# Altium footprint library Pcblibv2.PcbLib: 94 footprints (part 6 of 6)
Each footprint in its own frame and in the unit in brackets; x right, y up, seen from the top. Pads: shape width x height; smd on the part's side, far side on the other; paste and mask are expansions set on the pad; w line width, h text height; cw(c..) or ccw(c..) is an arc to the next point about the centre after c.
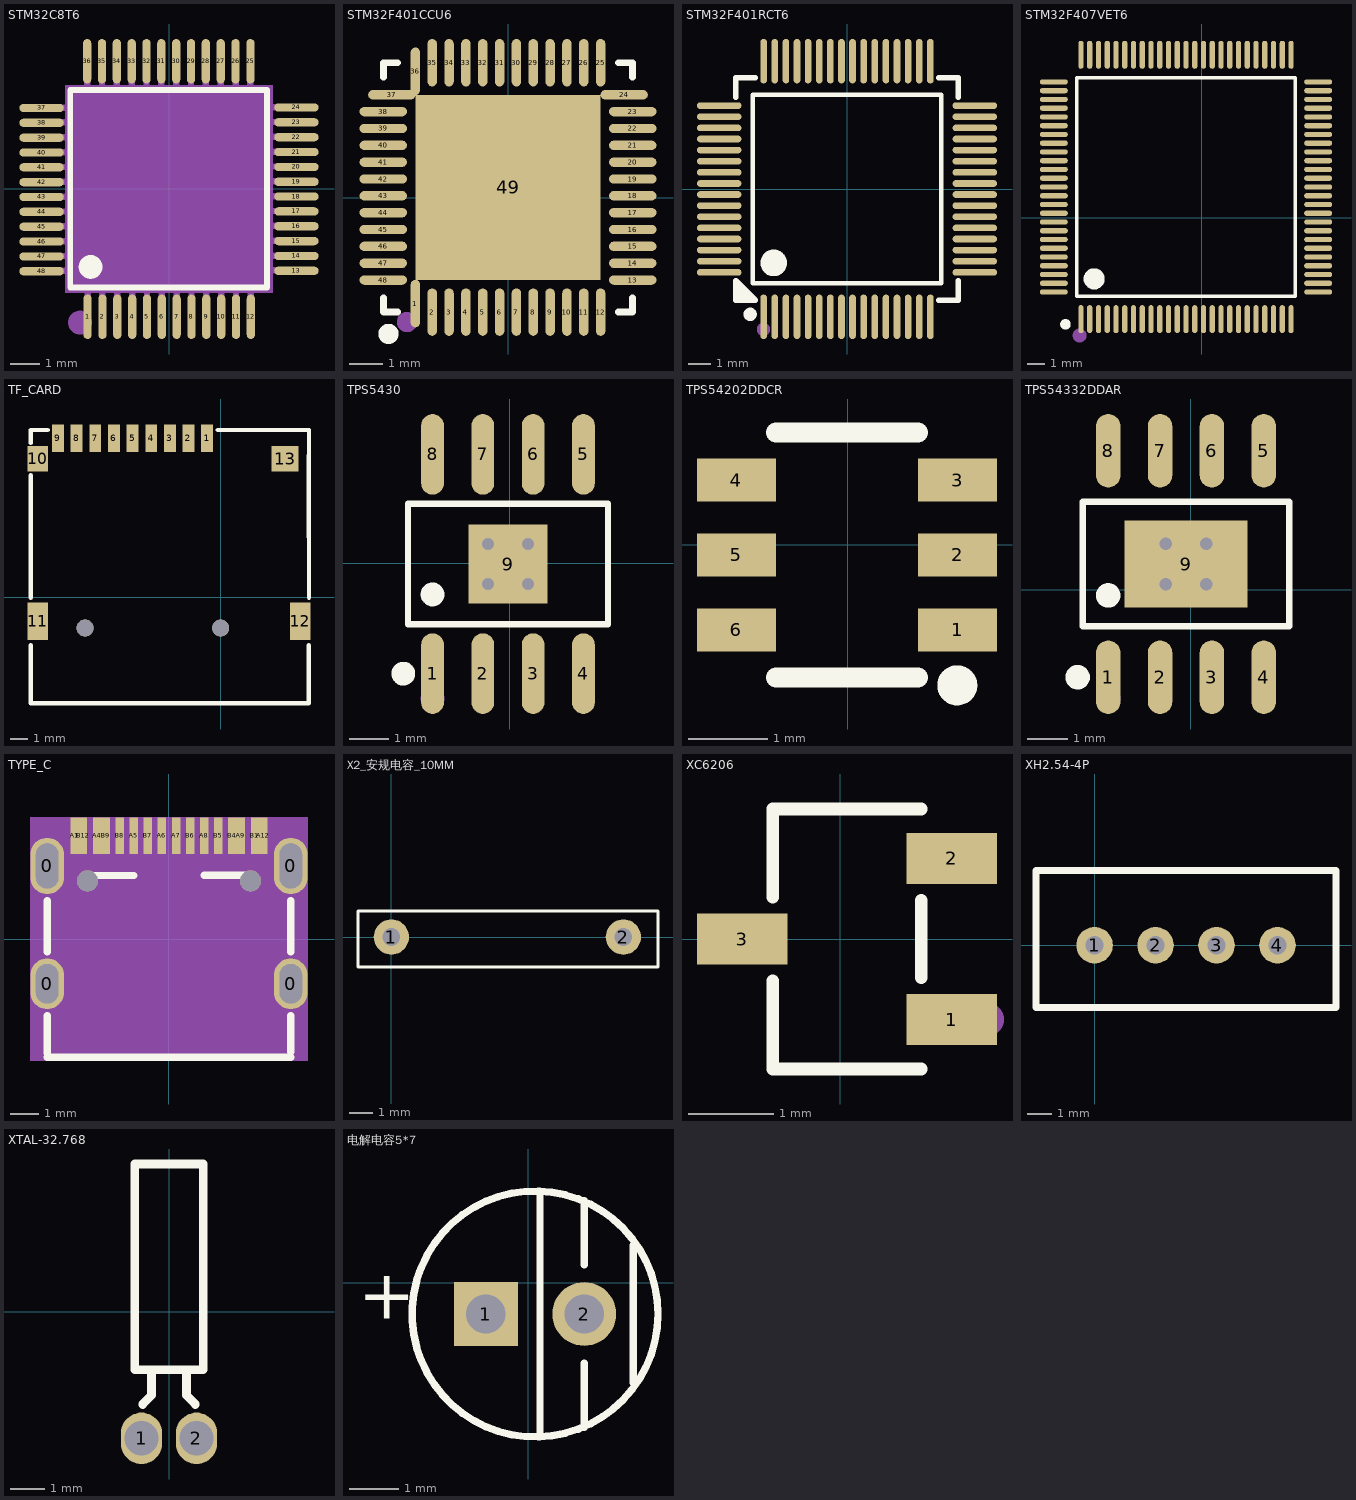
[diagram p5: the footprints below, top view; thin cyan lines are the x and y axes]

## STM32C8T6 [mil]
pads (48):
  oval 11.02x58.89 smd: 1(-108,-169.5) 2(-88.3,-169.5) 3(-68.6,-169.5) 4(-48.9,-169.5) 5(-29.2,-169.5) 6(-9.5,-169.5) 7(10.1,-169.5) 8(29.8,-169.5) 9(49.5,-169.5) 10(69.2,-169.5) 11(88.9,-169.5) 12(108.6,-169.5) 25(108,169.5) 26(88.3,169.5) 27(68.6,169.5) 28(48.9,169.5) 29(29.2,169.5) 30(9.5,169.5) 31(-10.1,169.5) 32(-29.8,169.5) 33(-49.5,169.5) 34(-69.2,169.5) 35(-88.9,169.5) 36(-108.6,169.5)
  oval 58.89x11.02 smd: 13(169,-108.5) 14(169,-88.8) 15(169,-69.1) 16(169,-49.4) 17(169,-29.7) 18(169,-10) 19(169,9.6) 20(169,29.3) 21(169,49) 22(169,68.7) 23(169,88.4) 24(169,108.1) 37(-169,107.5) 38(-169,87.8) 39(-169,68.1) 40(-169,48.4) 41(-169,28.7) 42(-169,9) 43(-169,-10.6) 44(-169,-30.3) 45(-169,-50) 46(-169,-69.7) 47(-169,-89.4) 48(-169,-109.1)
Top Overlay:
  lines w7.87: -114,131.5 130,131.5 130,-130.5 -131,-130.5 -131,131.5 -101,131.5
  lines w15.75: -104,-95.5 ccw(c-103.95,-103.37) -103.9,-95.5
Mechanical 4:
  region: -137.79,137.79 137.79,137.79 137.79,-137.8 -137.79,-137.8
Mechanical 5:
  drawing of 96 lines, arcs and shapes, not listed
Mechanical 15:
  circle w15.75: c-118.11,-177.17 r7.87
3D body "STM32F103C8T6--3DModel-STEP-56544.STEP": height 78.25, standoff 15.26, extent -173.16,-175.16 181.16,179.16

## STM32F401CCU6 [mm]
pads (49):
  oval 0.28x1.408 smd: 1(-2.751,-3.148) 2(-2.25,-3.402) 3(-1.75,-3.402) 4(-1.25,-3.402) 5(-0.749,-3.402) 6(-0.249,-3.402) 7(0.249,-3.402) 8(0.749,-3.402) 9(1.25,-3.402) 10(1.75,-3.402) 11(2.25,-3.402) 12(2.751,-3.402) 25(2.751,4.004) 26(2.25,4.004) 27(1.75,4.004) 28(1.25,4.004) 29(0.749,4.004) 30(0.249,4.004) 31(-0.249,4.004) 32(-0.749,4.004) 33(-1.25,4.004) 34(-1.75,4.004) 35(-2.25,4.004) 36(-2.751,3.75)
  oval 1.408x0.28 smd: 13(3.703,-2.45) 14(3.703,-1.949) 15(3.703,-1.449) 16(3.703,-0.949) 17(3.703,-0.448) 18(3.703,0.052) 19(3.703,0.55) 20(3.703,1.05) 21(3.703,1.551) 22(3.703,2.051) 23(3.703,2.551) 24(3.449,3.052) 37(-3.449,3.052) 38(-3.703,2.551) 39(-3.703,2.051) 40(-3.703,1.551) 41(-3.703,1.05) 42(-3.703,0.55) 43(-3.703,0.052) 44(-3.703,-0.448) 45(-3.703,-0.949) 46(-3.703,-1.449) 47(-3.703,-1.949) 48(-3.703,-2.45)
  rect 5.5x5.5 smd: 49(0,0.301)
Top Overlay:
  lines w0.2: -3.7,-2.974 -3.7,-3.399 -3.275,-3.399 ; -3.7,3.576 -3.7,4.001 -3.275,4.001 ; 3.275,-3.399 3.7,-3.399 3.7,-2.974 ; 3.275,4.001 3.7,4.001 3.7,3.576
  lines w0.3: -3.551,-3.9 ccw(c-3.55,-4.05) -3.549,-3.9
Mechanical 15:
  circle w0.3: c-3,-3.699 r0.15

## STM32F401RCT6 [mm]
pads (64):
  oval 0.3x2 smd: 1(-3.75,-5.75) 2(-3.25,-5.75) 3(-2.75,-5.75) 4(-2.25,-5.75) 5(-1.75,-5.75) 6(-1.25,-5.75) 7(-0.75,-5.75) 8(-0.25,-5.75) 9(0.25,-5.75) 10(0.75,-5.75) 11(1.25,-5.75) 12(1.75,-5.75) 13(2.25,-5.75) 14(2.75,-5.75) 15(3.25,-5.75) 16(3.75,-5.75) 33(3.75,5.75) 34(3.25,5.75) 35(2.75,5.75) 36(2.25,5.75) 37(1.75,5.75) 38(1.25,5.75) 39(0.75,5.75) 40(0.25,5.75) 41(-0.25,5.75) 42(-0.75,5.75) 43(-1.25,5.75) 44(-1.75,5.75) 45(-2.25,5.75) 46(-2.75,5.75) 47(-3.25,5.75) 48(-3.75,5.75)
  oval 2x0.3 smd: 17(5.75,-3.75) 18(5.75,-3.25) 19(5.75,-2.75) 20(5.75,-2.25) 21(5.75,-1.75) 22(5.75,-1.25) 23(5.75,-0.75) 24(5.75,-0.25) 25(5.75,0.25) 26(5.75,0.75) 27(5.75,1.25) 28(5.75,1.75) 29(5.75,2.25) 30(5.75,2.75) 31(5.75,3.25) 32(5.75,3.75) 49(-5.75,3.75) 50(-5.75,3.25) 51(-5.75,2.75) 52(-5.75,2.25) 53(-5.75,1.75) 54(-5.75,1.25) 55(-5.75,0.75) 56(-5.75,0.25) 57(-5.75,-0.25) 58(-5.75,-0.75) 59(-5.75,-1.25) 60(-5.75,-1.75) 61(-5.75,-2.25) 62(-5.75,-2.75) 63(-5.75,-3.25) 64(-5.75,-3.75)
Top Overlay:
  region: -4.131,-5 -5,-4.131 -5,-5
  lines w0.2: -4.25,-4.25 -4.25,4.25 4.25,4.25 4.25,-4.25 -4.25,-4.25
  lines w0.254: -5,4.131 -5,5 -4.131,5 ; 4.131,-5 5,-5 5,-4.131 ; 4.131,5 5,5 5,4.131 ; -5,-4.131 -5,-4.131 ; -5,-4.131 -4.131,-5 -5,-5 -5,-4.131
  lines w0.3: -4.361,-5.49 ccw(c-4.36,-5.64) -4.359,-5.49
  lines w0.6: -3.299,-3.025 ccw(c-3.297,-3.325) -3.294,-3.025
Mechanical 15:
  circle w0.3: c-3.76,-6.32 r0.15

## STM32F407VET6 [mm]
pads (100):
  oval 0.3x1.6 smd: 1(-6.889,-5.782) 2(-6.389,-5.782) 3(-5.889,-5.782) 4(-5.389,-5.782) 5(-4.889,-5.782) 6(-4.389,-5.782) 7(-3.889,-5.782) 8(-3.389,-5.782) 9(-2.889,-5.782) 10(-2.389,-5.782) 11(-1.889,-5.782) 12(-1.389,-5.782) 13(-0.889,-5.782) 14(-0.389,-5.782) 15(0.111,-5.782) 16(0.611,-5.782) 17(1.111,-5.782) 18(1.611,-5.782) 19(2.111,-5.782) 20(2.611,-5.782) 21(3.111,-5.782) 22(3.611,-5.782) 23(4.111,-5.782) 24(4.611,-5.782) 25(5.111,-5.782) 51(5.111,9.318) 52(4.611,9.318) 53(4.111,9.318) 54(3.611,9.318) 55(3.111,9.318) 56(2.611,9.318) 57(2.111,9.318) 58(1.611,9.318) 59(1.111,9.318) 60(0.611,9.318) 61(0.111,9.318) 62(-0.389,9.318) 63(-0.889,9.318) 64(-1.389,9.318) 65(-1.889,9.318) 66(-2.389,9.318) 67(-2.889,9.318) 68(-3.389,9.318) 69(-3.889,9.318) 70(-4.389,9.318) 71(-4.889,9.318) 72(-5.389,9.318) 73(-5.889,9.318) 74(-6.389,9.318) 75(-6.889,9.318)
  oval 1.6x0.3 smd: 26(6.661,-4.232) 27(6.661,-3.732) 28(6.661,-3.232) 29(6.661,-2.732) 30(6.661,-2.232) 31(6.661,-1.732) 32(6.661,-1.232) 33(6.661,-0.732) 34(6.661,-0.232) 35(6.661,0.268) 36(6.661,0.768) 37(6.661,1.268) 38(6.661,1.768) 39(6.661,2.268) 40(6.661,2.768) 41(6.661,3.268) 42(6.661,3.768) 43(6.661,4.268) 44(6.661,4.768) 45(6.661,5.268) 46(6.661,5.768) 47(6.661,6.268) 48(6.661,6.768) 49(6.661,7.268) 50(6.661,7.768) 76(-8.439,7.768) 77(-8.439,7.268) 78(-8.439,6.768) 79(-8.439,6.268) 80(-8.439,5.768) 81(-8.439,5.268) 82(-8.439,4.768) 83(-8.439,4.268) 84(-8.439,3.768) 85(-8.439,3.268) 86(-8.439,2.768) 87(-8.439,2.268) 88(-8.439,1.768) 89(-8.439,1.268) 90(-8.439,0.768) 91(-8.439,0.268) 92(-8.439,-0.232) 93(-8.439,-0.732) 94(-8.439,-1.232) 95(-8.439,-1.732) 96(-8.439,-2.232) 97(-8.439,-2.732) 98(-8.439,-3.232) 99(-8.439,-3.732) 100(-8.439,-4.232)
Top Overlay:
  lines w0.2: -7.139,-4.482 -7.139,8.018 5.361,8.018 5.361,-4.482 -7.139,-4.482
  lines w0.3: -7.772,-5.928 ccw(c-7.771,-6.078) -7.77,-5.928
  lines w0.6: -6.139,-3.183 ccw(c-6.137,-3.483) -6.134,-3.183
Top Paste:
  drawing of 100 lines, arcs and shapes, not listed
Mechanical 15:
  circle w0.4: c-6.96,-6.716 r0.2

## TF_CARD [mm] "C266620"
pads (15):
  rect 0.7x1.6 smd: 1(-0.816,9.39) 2(-1.916,9.39) 3(-3.015,9.39) 4(-4.115,9.39) 5(-5.216,9.39) 6(-6.316,9.39) 7(-7.415,9.39) 8(-8.516,9.39) 9(-9.616,9.39)
  rect 1.2x1.5 smd: 10(-10.815,8.19)
  rect 1.2x2.2 smd: 11(-10.815,-1.41) 12(4.685,-1.41)
  rect 1.6x1.5 smd: 13(3.784,8.19)
  round 1 hole 1 unplated: ""(-8.015,-1.81) ""(-0.015,-1.81)
Top Overlay:
  lines w0.254: -11.23,-2.824 -11.23,-6.253 5.184,-6.253 5.184,-2.824 5.184,-2.91 ; -11.23,-0.032 -11.23,7.207 ; -11.23,9.112 -11.23,9.874 -10.214,9.874 ; -0.181,9.874 5.192,9.874 5.184,6.99 5.192,-0.032

## TPS5430 [mm]
pads (9):
  oval 0.574x2.038 smd: 1(-1.952,-2.785) 2(-0.682,-2.785) 3(0.588,-2.785) 4(1.858,-2.785) 5(1.858,2.753) 6(0.588,2.753) 7(-0.682,2.753) 8(-1.952,2.753)
  rect 2x2 smd: 9(-0.047,-0.016)
via 0.453,-0.516 diameter 0.61 hole 0.305
via -0.547,-0.516 diameter 0.61 hole 0.305
via -0.547,0.484 diameter 0.61 hole 0.305
via 0.453,0.484 diameter 0.61 hole 0.305
Top Overlay:
  circle w0.3: c-2.691,-2.785 r0.15
  circle w0.3: c-1.952,-0.785 r0.15
  lines w0.152: -2.573,-1.537 2.479,-1.537 2.479,1.505 -2.573,1.505 -2.573,-1.537
Mechanical 15:
  circle w0.3: c-1.952,-3.416 r0.15

## TPS54202DDCR [mm]
pads (6):
  rect 1x0.55 smd: 1(1.393,-1.077) 2(1.393,-0.127) 3(1.393,0.823) 4(-1.408,0.823) 5(-1.408,-0.127) 6(-1.408,-1.077)
Top Overlay:
  circle w0.254: c1.39,-1.778 r0.127
  lines w0.254: -0.907,-1.677 0.893,-1.677 ; -0.907,1.423 0.893,1.423
Mechanical 15:
  circle w0.2: c1.393,-1.077 r0.1

## TPS54332DDAR [mm]
pads (9):
  oval 0.6x1.8 smd: 1(-2.024,-2.148) 2(-0.754,-2.148) 3(0.516,-2.148) 4(1.786,-2.148) 5(1.786,3.397) 6(0.516,3.397) 7(-0.754,3.397) 8(-2.024,3.397)
  rect 3x2.13 smd: 9(-0.119,0.625)
via -0.619,1.124 diameter 0.61 hole 0.305
via -0.619,0.124 diameter 0.61 hole 0.305
via 0.381,0.124 diameter 0.61 hole 0.305
via 0.381,1.124 diameter 0.61 hole 0.305
via -0.619,1.124 diameter 0.61 hole 0.305
via -0.619,0.124 diameter 0.61 hole 0.305
via 0.381,0.124 diameter 0.61 hole 0.305
via 0.381,1.124 diameter 0.61 hole 0.305
Top Overlay:
  circle w0.3: c-2.771,-2.148 r0.15
  circle w0.3: c-2.024,-0.145 r0.15
  lines w0.152: -2.646,-0.897 -2.646,2.146 2.407,2.146 2.407,-0.897 -2.646,-0.897
Top Paste:
  drawing of 9 lines, arcs and shapes, not listed
Mechanical 15:
  circle w0.3: c-2.024,-2.677 r0.15

## TYPE_C [mm]
pads (22):
  oval 1.2x1.8 hole 0.8 slot 1.4 at 90 deg: 0(-4.32,-1.589) 0(4.32,-1.589)
  oval 1.2x2 hole 0.8 slot 1.6 at 90 deg: 0(-4.32,2.591) 0(4.32,2.591)
  rect 0.3x1.3 smd: A1(-3.35,3.658) A4(-2.55,3.658) A5(-1.25,3.658) A6(-0.25,3.658) A7(0.25,3.658) A8(1.25,3.659) A9(2.55,3.658) A12(3.35,3.658) B1(3.05,3.658) B4(2.25,3.658) B5(1.75,3.658) B6(0.75,3.658) B7(-0.75,3.658) B8(-1.75,3.659) B9(-2.25,3.658) B12(-3.05,3.658)
  round 0.75 hole 0.75 unplated: ""(-2.89,2.061) ""(2.89,2.061)
Top Overlay:
  lines w0.254: -4.32,-4.192 4.32,-4.192 ; -4.32,-4.056 -4.32,-2.72 ; -4.32,-0.458 -4.32,1.36 ; -3,2.256 -1.25,2.256 ; 1.247,2.259 2.997,2.259 ; 4.32,-4.005 4.32,-2.72 ; 4.32,-0.458 4.32,1.36
Mechanical 4:
  circle w0.375: c-2.89,2.061 r0.187
  circle w0.375: c2.89,2.061 r0.187
  region: -4.92,4.319 4.92,4.319 4.92,-4.319 -4.92,-4.319
Mechanical 5:
  circle w0.127: c-2.89,2.061 r0.375
  circle w0.127: c2.89,2.061 r0.375
  region: -3.5,4.308 -3.2,4.308 -3.2,3.008 -3.5,3.008
  region: -3.2,4.308 -2.9,4.308 -2.9,3.008 -3.2,3.008
  region: -2.7,4.308 -2.4,4.308 -2.4,3.008 -2.7,3.008
  region: -2.4,4.308 -2.1,4.308 -2.1,3.008 -2.4,3.008
  region: -1.9,4.309 -1.6,4.309 -1.6,3.009 -1.9,3.009
  region: -1.4,4.308 -1.1,4.308 -1.1,3.008 -1.4,3.008
  region: -0.9,4.308 -0.6,4.308 -0.6,3.008 -0.9,3.008
  region: -0.4,4.308 -0.1,4.308 -0.1,3.008 -0.4,3.008
  region: 0.1,4.308 0.4,4.308 0.4,3.008 0.1,3.008
  region: 0.6,4.308 0.9,4.308 0.9,3.008 0.6,3.008
  region: 1.1,4.309 1.4,4.309 1.4,3.009 1.1,3.009
  region: 1.6,4.308 1.9,4.308 1.9,3.008 1.6,3.008
  region: 2.1,4.308 2.4,4.308 2.4,3.008 2.1,3.008
  region: 2.4,4.308 2.7,4.308 2.7,3.008 2.4,3.008
  region: 2.9,4.308 3.2,4.308 3.2,3.008 2.9,3.008
  region: 3.2,4.308 3.5,4.308 3.5,3.008 3.2,3.008
  region: -4.92,-0.689 -3.72,-0.689 -3.72,-2.489 -4.92,-2.489
  region: 3.72,-0.689 4.92,-0.689 4.92,-2.489 3.72,-2.489
  region: 3.72,3.591 4.92,3.591 4.92,1.591 3.72,1.591
  region: -4.92,3.591 -3.72,3.591 -3.72,1.591 -4.92,1.591
3D body "typec.STEP": height 3.13, standoff -1.07, extent -4.267,-3.896 4.673,4.004

## X2_安规电容_10MM [mil]
pads (2):
  round 60 hole 30: 1(0,0) 2(393.7,0)
Top Overlay:
  lines w5: -56.6,-50.7 452.5,-50.7 452.5,44.2 -56.6,44.2 -56.6,-50.7

## XC6206 [mm]
pads (3):
  rect 1.07x0.6 smd: 1(1.314,-0.95) 2(1.314,0.95) 3(-1.156,0)
Top Overlay:
  lines w0.152: -0.797,-0.495 -0.797,-1.536 0.955,-1.536 ; -0.797,0.495 -0.797,1.536 0.955,1.536 ; 0.955,-0.455 0.955,0.455
Mechanical 15:
  circle w0.2: c1.73,-0.95 r0.1

## XH2.54-4P [mil]
pads (4):
  round 60 hole 30: 1(0,0) 2(100,0) 3(200,0) 4(300,0)
Top Overlay:
  lines w11.81: -96.1,-102 396.03,-102 396.03,122.41 -96.1,122.41 -96.1,-102

## XTAL-32.768 [mm] "长的"
pads (2):
  oval 1.2x1.5 hole 1: 1(-0.8,-3.688) 2(0.8,-3.688)
Top Overlay:
  lines w0.254: -0.762,-2.708 -0.762,-2.688 -0.508,-2.435 -0.508,-2.307 -0.508,-1.799 ; 0.508,-1.799 0.508,-2.307 0.508,-2.434 0.762,-2.688 0.762,-2.708 ; -1,-1.688 -1,4.311 1,4.311 1,-1.688 -1,-1.688

## 电解电容5*7 [mm]
pads (2):
  rect 1.3x1.3 hole 0.8: 1(-0.865,-0.634)
  round 1.3 hole 0.8: 2(1.135,-0.634)
Top Overlay:
  circle w0.15: c0.135,-0.634 r2.5
  lines w0.15: 0.235,-3.134 0.235,1.866 ; 1.135,-2.934 1.135,-1.634 ; 1.135,0.366 1.135,1.666 ; 2.135,-2.034 2.135,0.766
  text "+" at -3.465,-0.734 h1.02